# EAGLE library part HEADER-2X3P (library Connector-new)
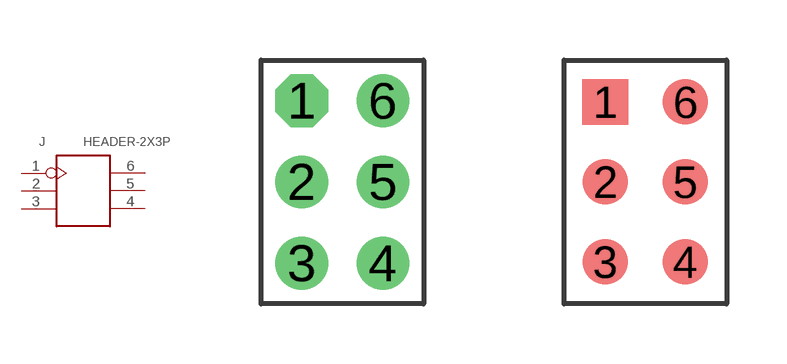
[diagram p1: symbol with the pads of H2X3-2.0; footprints H2X3-2.0, H2X3-SMD-2.0(1.143)]

Designator prefix J

## HEADER-2X3P2.0  [H2X3-2.0]
1  1
2  2
3  3
4  4
5  5
6  6

## HEADER-2X3P-2.0-1.143  [H2X3-SMD-2.0(1.143)]
Pads as for H2X3-2.0

## HEADER-2X3P-2.0-SMD  [H2X3-SMD-2.0]
Pads as for H2X3-2.0

## HEADER-2X3P-2.54  [H2X3-2.54]
Pads as for H2X3-2.0

## HEADER-2X3P-2.54-1.65  [H2X3P-SMD-2.54(1.65)]
Pads as for H2X3-2.0

## HEADER-2X3P-SMD  [H2X3-SMD-2.54]
Pads as for H2X3-2.0

## Footprint H2X3-2.0 (pad centres in mm)
drill 0.813 pad 1.27 octagon: 1 -1.016,2.032
drill 0.813 pad 1.27: 2 -1.016,0; 3 -1.016,-2.032; 4 1.016,-2.032; 5 1.016,0; 6 1.016,2.032

## Footprint H2X3-SMD-2.0(1.143) (pad centres in mm)
smd 1.143 x 1.143: 1 -1,2; 2 -1,0; 3 -1,-2; 4 1,-2; 5 1,0; 6 1,2

## Footprint H2X3-SMD-2.0 (pad centres in mm)
smd 2.032 x 1.27: 1 -2.286,2.032; 2 -2.286,0; 3 -2.286,-2.032; 4 2.286,-2.032; 5 2.286,0; 6 2.286,2.032

## Footprint H2X3-2.54 (pad centres in mm)
drill 0.889 pad 1.651 square: 1 -1.27,2.54
drill 0.889 pad 1.651: 2 -1.27,0; 3 -1.27,-2.54; 4 1.27,-2.54; 5 1.27,0; 6 1.27,2.54

## Footprint H2X3P-SMD-2.54(1.65) (pad centres in mm)
smd 1.65 x 1.65: 1 -1.27,2.54; 2 -1.27,0; 3 -1.27,-2.54; 4 1.27,-2.54; 5 1.27,0; 6 1.27,2.54

## Footprint H2X3-SMD-2.54 (pad centres in mm)
smd 2.54 x 1.524: 1 -2.794,2.54; 2 -2.794,0; 3 -2.794,-2.54; 4 2.794,-2.54; 5 2.794,0; 6 2.794,2.54